# Altium schematic symbol library DRV8835.SchLib: 1 symbol
Pins are listed as number, name and electrical type; pins without a type are passive.

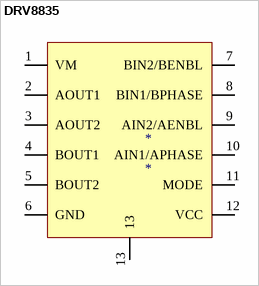
[diagram p0: symbol DRV8835]

## DRV8835
designator *
pins: 1 VM, 2 AOUT1, 3 AOUT2, 4 BOUT1, 5 BOUT2, 6 GND, 7 BIN2/BENBL, 8 BIN1/BPHASE, 9 AIN2/AENBL, 10 AIN1/APHASE, 11 MODE, 12 VCC, 13